# Altium schematic symbol library mag-encoder-uart.SchLib: 9 symbols
Pins are listed as number, name and electrical type; pins without a type are passive.

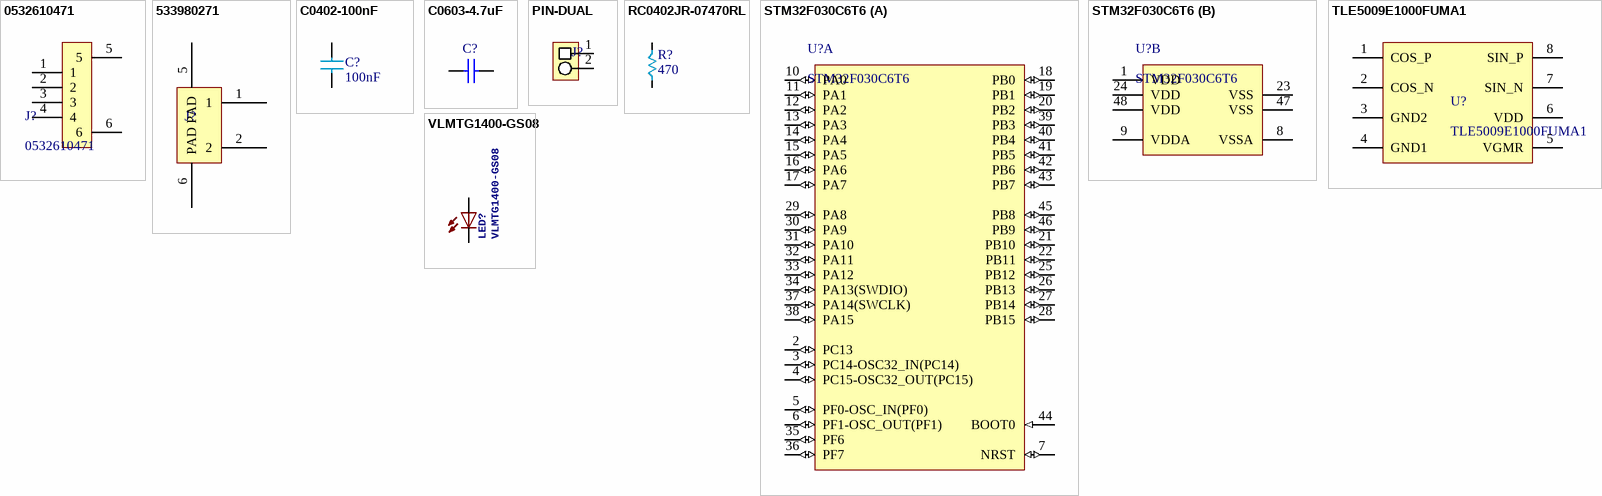
[diagram p0: symbols 0532610471 to VLMTG1400-GS08]

## 0532610471
designator J?
Headers & Wire Housings 1.25MM HDR 4 CKT Right-Angle; Manufacturer: Molex; Manufacturer Part Number: 53261-0471; Contact Resistance: 20mR; Number of Positions: 4; Current Rating: 1A; Voltage Rating (AC): 125V; Insulation Resistance: 100MR; Gender: Male; Glow Wire Compliant: Non-compliant; Supplier 1: Digi-Key; Supplier Part Number 1: WM7622DKR-ND; Description 1: Headers & Wire Housings 1.25MM HDR 4 CKT Right-Angle; Stock: 42057; Pricing: 1=1.24, 10=1.089, 100=0.9397, 500=0.76884 (USD); Mount: Surface Mount; Contact Plating: Tin; Contact Material: Bronze,Tin; Color: Beige; Housing Material: Thermoplastic; Min Operating Temperature: -40°C; Max Operating Temperature: 85°C; Orientation: Right Angle; Number of Rows: 1; Packaging: Tape and Reel; Termination: SMD/SMT; Number of Contacts: 4; Voltage Rating: 125V; Package Quantity: 1000; Working Voltage: 125V; Number of Circuits: 4; Voltage Rating (DC): 125V; Pitch: 1.25mm; Lead Pitch: 1.25mm; Radiation Hardening: No; Flammability Rating: UL94 V-0; REACH SVHC: Unknown; Lead Free: Lead Free; ComponentLink1URL: http://www.mouser.com/ds/2/276/0532610471_PCB_HEADERS-170942.pdf; ComponentLink1Description: http://www.mouser.com/ds/2/276/0532610471_PCB_HEADERS-170942.pdf; ComponentLink2URL: http://uk.rs-online.com/webdocs/1380/0900766b8138010d.pdf; ComponentLink2Description: http://uk.rs-online.com/webdocs/1380/0900766b8138010d.pdf; ComponentLink3URL: http://www.farnell.com/datasheets/1867384.pdf; ComponentLink3Description: http://www.farnell.com/datasheets/1867384.pdf; ComponentLink4URL: http://www.molex.com/webdocs/datasheets/pdf/en-us/0532610471_PCB_HEADERS.pdf; ComponentLink4Description: http://www.molex.com/webdocs/datasheets/pdf/en-us/0532610471_PCB_HEADERS.pdf; ComponentLink5URL: https://www.alliedelec.com/m/d/74d14d19c60ab078e4881c4c1bd42ef7.pdf; ComponentLink5Description: https://www.alliedelec.com/m/d/74d14d19c60ab078e4881c4c1bd42ef7.pdf; ComponentLink6URL: http://www.jameco.com/Jameco/Products/ProdDS/1932555.pdf; ComponentLink6Description: http://www.jameco.com/Jameco/Products/ProdDS/1932555.pdf
footprint 0532610471
pins: 1 (power), 2 (power), 3 (power), 4 (power), 5 (power), 6 (power)

## 533980271
designator J?  (value not drawn)
CONN HEADER SMD 2POS 1.25MM; Manufacturer: Molex; Manufacturer Part Number: 53398-0271; Number of Contacts: 2; Contact Resistance: 20mR; Gender: Male; Current Rating: 1A; Voltage Rating (AC): 125V; Insulation Resistance: 100MR; Glow Wire Compliant: Non-compliant; Supplier 1: Digi-Key; RoHS: Yes; Category: Headers and Wire Housings; Stock 1: 75503; Pricing 1: 1=0.59000, 10=0.54900, 100=0.42100, 500=0.36608 (USD); Mount: Surface Mount; Contact Plating: Tin; Contact Material: Bronze,Brass,Tin; Color: Natural; Housing Color: Natural; Housing Material: Nylon; Min Operating Temperature: -40°C; Max Operating Temperature: 85°C; Number of Rows: 1; Termination: Solder; Orientation: Vertical; Packaging: Tape and Reel; Package Quantity: 1000; Voltage Rating: 125V; Number of Positions: 2; Working Voltage: 125V; Number of Circuits: 2; Voltage Rating (DC): 125V; Pitch: 1.25mm; Radiation Hardening: No; REACH SVHC: Unknown; Lead Free: Lead Free; Flammability Rating: UL94 V-0; ComponentLink1URL: https://datasheet.ciiva.com/7167/1626130-7167520.pdf?src-supplier=Newark; ComponentLink1Description: https://datasheet.ciiva.com/7167/1626130-7167520.pdf?src-supplier=Newark; ComponentLink2URL: https://datasheet.ciiva.com/9468/0533980271-pcb-headers-9468512.pdf?src-supplier=Avnet; ComponentLink2Description: https://datasheet.ciiva.com/9468/0533980271-pcb-headers-9468512.pdf?src-supplier=Avnet; ComponentLink3URL: https://datasheet.ciiva.com/36178/1932619-36178944.pdf?src-supplier=Jameco; ComponentLink3Description: https://datasheet.ciiva.com/36178/1932619-36178944.pdf?src-supplier=Jameco; ComponentLink4URL: https://datasheet.ciiva.com/7920/1841150-7920834.pdf?src-supplier=Element14; ComponentLink4Description: https://datasheet.ciiva.com/7920/1841150-7920834.pdf?src-supplier=Element14; ComponentLink5URL: https://datasheet.ciiva.com/14156/gf116833-116846-e-14156243.pdf?src-supplier=Distrelec; ComponentLink5Description: https://datasheet.ciiva.com/14156/gf116833-116846-e-14156243.pdf?src-supplier=Distrelec; ComponentLink6URL: https://datasheet.ciiva.com/30229/225140533980271-pcb-headers-30229043.pdf?src-supplier=Onlinecomponents.com; ComponentLink6Description: https://datasheet.ciiva.com/30229/225140533980271-pcb-headers-30229043.pdf?src-supplier=Onlinecomponents.com; ComponentLink7URL: https://datasheet.ciiva.com/5150/0533980271-pcb-headers-146564-5150549.pdf?src-supplier=Mouser; ComponentLink7Description: https://datasheet.ciiva.com/5150/0533980271-pcb-headers-146564-5150549.pdf?src-supplier=Mouser; ComponentLink8URL: https://datasheet.ciiva.com/28523/1759360-28523372.pdf?src-supplier=Element14; ComponentLink8Description: https://datasheet.ciiva.com/28523/1759360-28523372.pdf?src-supplier=Element14; ComponentLink9URL: https://datasheet.ciiva.com/11746/0900766b80ab946a-11746463.pdf?src-supplier=RSComponents; ComponentLink9Description: https://datasheet.ciiva.com/11746/0900766b80ab946a-11746463.pdf?src-supplier=RSComponents; ComponentLink10URL: https://datasheet.ciiva.com/22707/1867379-22707654.pdf?src-supplier=Element14; ComponentLink10Description: https://datasheet.ciiva.com/22707/1867379-22707654.pdf?src-supplier=Element14; ComponentLink11URL: https://datasheet.ciiva.com/18454/70090670-18454279.pdf?src-supplier=Allied+Electronics; ComponentLink11Description: https://datasheet.ciiva.com/18454/70090670-18454279.pdf?src-supplier=Allied+Electronics; ComponentLink12URL: https://datasheet.ciiva.com/22683/1626130-22683563.pdf?src-supplier=Element14; ComponentLink12Description: https://datasheet.ciiva.com/22683/1626130-22683563.pdf?src-supplier=Element14; ComponentLink13URL: https://datasheet.ciiva.com/16658/0533980271-pcb-headers-16658429.pdf?src-supplier=Avnet+Europe; ComponentLink13Description: https://datasheet.ciiva.com/16658/0533980271-pcb-headers-16658429.pdf?src-supplier=Avnet+Europe; Supplier Part Number 1: WM7606CT-ND
footprint 533980271
pins: 1, 2, 5 PAD, 6 PAD

## C0402-100nF
designator C?, comment 100nF
SAMSUNG ELECTRO-MECHANICS - CL05F104ZO5NNNC - SMD Multilayer Ceramic Capacitor, 0.1 µF, 16 V, 0402 [1005 Metric], +80%, -20%, Y5V, CL Series; Tolerance: 80%; Voltage Rating: 16V; Supplier 1: Digi-Key; Manufacturer: Samsung; Manufacturer Part Number: CL05F104ZO5NNNC; RoHS: Yes; Category: Ceramic Capacitors; Stock 1: 4278518; Pricing 1: 1=0.10000, 10=0.01900, 50=0.01040, 100=0.00850, 500=0.00604, 1000=0.00475, 2500=0.00432, 5000=0.00397 (USD); Mount: Surface Mount; Case/Package: 0402; Material: Ceramic; Contact Plating: Tin; Case Code (Metric): 1005; Case Code (Imperial): 0402; Min Operating Temperature: -30°C; Max Operating Temperature: 85°C; Capacitance: 100nF; Dielectric: Y5V; Packaging: Tape and Reel; Length: 1mm; Height: 0.5mm; Width: 0.02inch; Thickness: 0.022inch; Depth: 0.5mm; Radiation Hardening: No; ComponentLink1URL: https://datasheet.ciiva.com/16199/cl05f104zo5nnnc-16199056.pdf?src-supplier=Future+Electronics; ComponentLink1Description: https://datasheet.ciiva.com/16199/cl05f104zo5nnnc-16199056.pdf?src-supplier=Future+Electronics; ComponentLink2URL: https://datasheet.ciiva.com/15195/getdatasheetpartid-358403-15195703.pdf?src-supplier=Verical; ComponentLink2Description: https://datasheet.ciiva.com/15195/getdatasheetpartid-358403-15195703.pdf?src-supplier=Verical; ComponentLink3URL: https://datasheet.ciiva.com/29198/458504-da-01-en-vs-kondensator-0402-29198386.pdf?src-supplier=Conrad; ComponentLink3Description: https://datasheet.ciiva.com/29198/458504-da-01-en-vs-kondensator-0402-29198386.pdf?src-supplier=Conrad; Supplier Part Number 1: 1276-1004-1-ND
footprint c0402 (Chip Capacitor, 2-Leads, Body 1.00x0.50mm, IPC Medium Density)
pins: 1, 2

## C0603-4.7uF
designator C?, comment 4.7uF  (value not drawn)
Cap Ceramic 4.7uF 6.3VDC X5R 10% SMD 0603 Paper T/R; Manufacturer: Samsung; Manufacturer Part Number: CL10A475KQ8NNNC; Tolerance: 20%; Voltage Rating: 6.3V; Supplier 1: Digi-Key; RoHS: Yes; Category: Ceramic Capacitors; Stock 1: 1192818; Pricing 1: 1=0.10000, 10=0.04500, 50=0.02480, 100=0.02030, 500=0.01448, 1000=0.01137 (USD); Mount: Surface Mount; Case/Package: 0603; Case Code (Metric): 1608; Case Code (Imperial): 0603; Material: Ceramic; Contact Plating: Tin; Min Operating Temperature: -55°C; Max Operating Temperature: 85°C; Capacitance: 4.7uF; Dielectric: X5R; Packaging: Tape and Reel; Package Quantity: 1; Voltage: 6.3V; Length: 1.6mm; Height: 0.8mm; Width: 0.031inch; Thickness: 0.035inch; Depth: 0.8mm; Radiation Hardening: No; ComponentLink1URL: https://datasheet.ciiva.com/15195/getdatasheetpartid-358620-15195714.pdf?src-supplier=Verical; ComponentLink1Description: https://datasheet.ciiva.com/15195/getdatasheetpartid-358620-15195714.pdf?src-supplier=Verical; ComponentLink2URL: https://datasheet.ciiva.com/29198/457675-da-01-en-vs-kondensator-0603-29198672.pdf?src-supplier=Conrad; ComponentLink2Description: https://datasheet.ciiva.com/29198/457675-da-01-en-vs-kondensator-0603-29198672.pdf?src-supplier=Conrad; ComponentLink3URL: https://datasheet.ciiva.com/16437/cl05b104kq5nnnc-16437321.pdf?src-supplier=Future+Electronics; ComponentLink3Description: https://datasheet.ciiva.com/16437/cl05b104kq5nnnc-16437321.pdf?src-supplier=Future+Electronics; Supplier Part Number 1: 1276-1045-1-ND
footprint C0603 (Chip Capacitor, 2-Leads, Body 1.60x0.80mm, IPC Medium Density)
pins: 1, 2

## PIN-DUAL
designator J?  (value not drawn)
footprint PAD-DOUBLE
pins: 1, 2

## RC0402JR-07470RL
designator R?, comment 470
RES 680 OHM 5% 1/16W 0402; Manufacturer: Yageo; Manufacturer Part Number: RC0402JR-07470RL; Description 1: RES SMD 470 OHM 5% 1/16W 0402; Resistance: 470R; Power Rating: 62.5mW; Voltage Rating: 50V; Temperature Coefficient: 100ppm/°C; Max Power Dissipation: 63mW; Value: 470; Supplier 1: Digi-Key; Supplier Part Number 1: 311-470JRDKR-ND; Stock: 2903670; Pricing: 1=0.1, 10=0.013, 100=0.0055, 1000=0.00245, 2500=0.00212, 5000=0.00176 (USD); Case/Package: 0402; Case Code (Metric): 1005; Case Code (Imperial): 0402; Min Operating Temperature: -55°C; Max Operating Temperature: 155°C; Composition: Thick Film; Tolerance: 5%; Packaging: Tape and Reel; Package Quantity: 1; Number of Terminations: 2; Termination: SMD/SMT; Military Standard: Not; Working Voltage: 50V; Features: Moisture Resistant; Length: 1mm; Height: 0.016inch; Width: 0.02inch; Depth: 0.5mm; REACH SVHC: Unknown; Lead Free: Lead Free; ComponentLink1URL: http://www.yageo.com/documents/recent/PYu-RC_Group_51_RoHS_L_10.pdf?src-supplier=Digi-Key; ComponentLink1Description: http://www.yageo.com/documents/recent/PYu-RC_Group_51_RoHS_L_10.pdf?src-supplier=Digi-Key; ComponentLink2URL: http://www.farnell.com/datasheets/1018594.pdf?src-supplier=Element14; ComponentLink2Description: http://www.farnell.com/datasheets/1018594.pdf?src-supplier=Element14; ComponentLink3URL: http://www.mouser.com/ds/2/447/PYu-RC0402_51_RoHS_L_6_r-8721.pdf?src-supplier=Mouser; ComponentLink3Description: http://www.mouser.com/ds/2/447/PYu-RC0402_51_RoHS_L_6_r-8721.pdf?src-supplier=Mouser; Supplier 2: Digi-Key; RoHS: Yes; Category: Chip SMD Resistors; Stock 2: 241664; Pricing 2: 1=0.10000, 10=0.01100, 100=0.00450, 1000=0.00204, 2500=0.00177, 5000=0.00146 (USD); Mount: Surface Mount; Contact Plating: Tin,Matte; Radiation Hardening: No; ComponentLink4URL: https://www.seielect.com/catalog/SEI-Packaging.pdf?src-supplier=Digi-Key; ComponentLink4Description: https://www.seielect.com/catalog/SEI-Packaging.pdf?src-supplier=Digi-Key; ComponentLink5URL: https://www.seielect.com/catalog/SEI-RMCF_RMCP.pdf?src-supplier=Avnet; ComponentLink5Description: https://www.seielect.com/catalog/SEI-RMCF_RMCP.pdf?src-supplier=Avnet; ComponentLink6URL: http://www.seielect.com/Catalog/SEI-RMC.pdf?src-supplier=Future+Electronics; ComponentLink6Description: http://www.seielect.com/Catalog/SEI-RMC.pdf?src-supplier=Future+Electronics; Supplier Part Number 2: RMCF0402JT680RCT-ND
footprint R0402 (Chip Resistor, 2-Leads, Body 1.00x0.50mm, IPC High Density)
pins: 1, 2

## STM32F030C6T6
designator U?
STMICROELECTRONICS - STM32F030C6T6 - ARM MCU, Value Line, STM32 Family STM32F0 Series Microcontrollers, ARM Cortex-M0, 32bit, 48 MHz - ARM MCU, Value Line, STM32 Family STM32F0 Series Microcontrollers, ARM Cortex-M0, 32bit, 48 MHz; FLASH Size (Prog) (kB): 32; I/Os (High Current): 39; Internal RAM Size (kB): 4; Operating Frequency(F) (Processor speed) (MHz): 48; Packing: Tray; Supply Voltage(Vcc) min (V): 2.4; Interface: I2C,SPI,UART,USART; Number of Timers/Counters: 5; Max Supply Voltage: 3.6V; RAM Size: 4KB; Max Power Dissipation: 364mW; Frequency: 48MHz; Min Supply Voltage: 2.4V; Number of ADC Channels: 16; Oscillator Type: Internal; Data Bus Width: 32b; Watchdog Timer: Yes; Memory Type: FLASH; Memory Size: 32KB; Peripherals: POR,PWM,WDT,DMA; Number of SPI Channels: 1; Number of PWM Channels: 6; DatasheetVersion: Rev. 1; PackageVersion: Rev. 6, 06/2013; PackageReference: LQFP48; PackageDescription: 48-Pin Low Profile Quad Flat Package, 7 x 7 mm Body, 0.5 mm Pitch; Supplier 1: Digi-Key; Supplier Part Number 1: 497-14042-ND; Supplier 2: Newark; Supplier Part Number 2: 06X3646; Supplier 3: Mouser; Supplier Part Number 3: 511-STM32F030C6T6; Core: ARM Cortex-M0; Mounting Technology: Surface Mount; PartNumber: STM32F030C6T6; ComponentLink1Description: Manufacturer URL; ComponentLink1URL: http://www.st.com/web/en/home.html; ComponentLink2Description: Datasheet; ComponentLink2URL: http://www.st.com/st-web-ui/static/active/en/resource/technical/document/datasheet/DM00088500.pdf; ComponentLink3Description: Package Specification; ComponentLink3URL: http://www.st.com/st-web-ui/static/active/en/resource/technical/document/datasheet/DM00058181.pdf; Manufacturer: STMicroelectronics; Manufacturer Part Number: STM32F030C6T6; RoHS: Yes; Category: Microcontrollers; Stock 1: 262; Pricing 1: 1=1.48000, 10=1.32900, 25=1.25400, 100=1.06840, 250=1.00320, 500=0.87780, 1000=0.72732, 2500=0.67716, 5000=0.65208 (USD); Case/Package: LQFP; Number of Pins: 48; Contact Plating: Tin,Matte; Min Operating Temperature: -40°C; Max Operating Temperature: 85°C; Number of I/Os: 39; Package Quantity: 250; Packaging: Tray; Number of Programmable I/O: 39; Max Frequency: 48MHz; Core Architecture: ARM; Number of I2C Channels: 1; Length: 7.2mm; Height: 1.45mm; Width: 7.2mm; Radiation Hardening: No; Lead Free: Lead Free; REACH SVHC: No SVHC; ComponentLink4URL: https://datasheet.ciiva.com/29720/dm00088500-29720640.pdf?src-supplier=Avnet; ComponentLink4Description: https://datasheet.ciiva.com/29720/dm00088500-29720640.pdf?src-supplier=Avnet; ComponentLink5URL: https://datasheet.ciiva.com/28647/1883133-28647788.pdf?src-supplier=Element14; ComponentLink5Description: https://datasheet.ciiva.com/28647/1883133-28647788.pdf?src-supplier=Element14
footprint LQFP48 (QFP, 48-Leads, Body 7x7mm, Pitch 0.5mm, IPC Medium Density)
part A pins: 2 PC13 (io) "PC13/RTC_TAMP1,RTC_TS,RTC_OUT,WKUP2", 3 PC14-OSC32_IN(PC14) (io) "PC14-OSC32_IN(PC14)/OSC32_IN", 4 PC15-OSC32_OUT(PC15) (io) "PC15-OSC32_OUT(PC15)/OSC32_OUT", 5 PF0-OSC_IN(PF0) (io) "PF0-OSC_IN(PF0)/OSC_IN", 6 PF1-OSC_OUT(PF1) (io) "PF1-OSC_OUT(PF1)/OSC_OUT", 7 NRST (io) "Device reset input / internal reset output (active low)", 10 PA0 (io) "PA0/USART1_CTS/ADC_IN0,RTC_TAMP2,WKUP1", 11 PA1 (io) "PA1/USART1_RTS,EVENTOUT/ADC_IN1", 12 PA2 (io) "PA2/USART1_TX/ADC_IN2", 13 PA3 (io) "PA3/USART1_RX/ADC_IN3", 14 PA4 (io) "PA4/SPI1_NSS,USART1_CK,TIM14_CH1/ADC_IN4", 15 PA5 (io) "PA5/SPI1_SCK/ADC_IN5", 16 PA6 (io) "PA6/SPI1_MISO,TIM3_CH1,TIM1_BKIN,TIM16_CH1,EVENTOUT/ADC_IN6", 17 PA7 (io) "PA7/SPI1_MOSI,TIM3_CH2,TIM14_CH1,TIM1_CH1N,TIM17_CH1,EVENTOUT/ADC_IN7", 18 PB0 (io) "PB0/TIM3_CH3,TIM1_CH2N,EVENTOUT/ADC_IN8", 19 PB1 (io) "PB1/TIM3_CH4,TIM14_CH1,TIM1_CH3N/ADC_IN9", 20 PB2 (io), 21 PB10 (io) "PB10/I2C1_SCL", 22 PB11 (io) "PB11/I2C1_SDA,EVENTOUT", 25 PB12 (io) "PB12/SPI1_NSS,TIM1_BKIN,EVENTOUT", 26 PB13 (io) "PB13/SPI1_SCK,TIM1_CH1N", 27 PB14 (io) "PB14/SPI1_MISO,TIM1_CH2N", 28 PB15 (io) "PB15/SPI1_MOSI,TIM1_CH3N/RTC_REFIN", 29 PA8 (io) "PA8/USART1_CK,TIM1_CH1,EVENTOUT,MCO", 30 PA9 (io) "PA9/USART1_TX,TIM1_CH2,I2C1_SCL", 31 PA10 (io) "PA10/USART1_RX,TIM1_CH3,TIM17_BKIN,I2C1_SDA", 32 PA11 (io) "PA11/USART1_CTS,TIM1_CH4,EVENTOUT", 33 PA12 (io) "PA12/USART1_RTS,TIM1_ETR,EVENTOUT", 34 PA13(SWDIO) (io) "PA13(SWDIO)/IR_OUT,SWDIO", 35 PF6 (io) "PF6/I2C1_SCL", 36 PF7 (io) "PF7/I2C1_SDA", 37 PA14(SWCLK) (io) "PA14(SWCLK)/USART1_TX,SWCLK", 38 PA15 (io) "PA15/SPI1_NSS,USART1_RX,EVENTOUT", 39 PB3 (io) "PB3/SPI1_SCK,EVENTOUT", 40 PB4 (io) "PB4/SPI1_MISO,TIM3_CH1,EVENTOUT", 41 PB5 (io) "PB5/SPI1_MOSI,I2C1_SMBA,TIM16_BKIN,TIM3_CH2", 42 PB6 (io) "PB6/I2C1_SCL,USART1_TX,TIM16_CH1N", 43 PB7 (io) "PB7/I2C1_SDA,USART1_RX,TIM17_CH1N", 44 BOOT0 (in) "Boot memory selection", 45 PB8 (io) "PB8/I2C1_SCL,TIM16_CH1", 46 PB9 (io) "PB9/I2C1_SDA,IR_OUT,TIM17_CH1,EVENTOUT"
part B pins: 1 VDD (power) "Complementary power supply", 8 VSSA (power) "Analog ground", 9 VDDA (power) "Analog power supply", 23 VSS (power) "Ground", 24 VDD (power) "Digital power supply", 47 VSS (power) "Ground", 48 VDD (power) "Digital power supply"

## TLE5009E1000FUMA1
designator U?
RotaryPosition Sensor 5.5V Automotive 8-Pin DSO Tape and Reel; Manufacturer: Infineon; Operating Supply Voltage: 3.3V; Interface: Analog; Sensing Method: Magnetoresistive; Supplier 1: Digi-Key; Manufacturer Part Number: TLE5009E1000FUMA1; RoHS: Yes; Category: Sensors; Stock 1: 2450; Pricing 1: 1=3.40000, 5=3.15600, 10=2.62200, 25=2.18480, 50=1.94220, 100=1.84510, 500=1.55372, 1000=1.45662 (USD); Mount: Surface Mount; Case/Package: SMD/SMT; Number of Pins: 8; Min Operating Temperature: -40°C; Max Operating Temperature: 150°C; Termination: SMD/SMT; Lead Free: Lead Free; Halogen Free: Not Halogen Free; ComponentLink1URL: http://components.arrow.com/part/dataview/52121057S8968538N2051?src-supplier=Arrow; ComponentLink1Description: http://components.arrow.com/part/dataview/52121057S8968538N2051?src-supplier=Arrow; ComponentLink2URL: http://components.arrow.com/part/dataview/0323_03444430?src-supplier=Arrow+Europe; ComponentLink2Description: http://components.arrow.com/part/dataview/0323_03444430?src-supplier=Arrow+Europe; ComponentLink3URL: http://www.infineon.com/dgdl/Infineon-TLE5009_FDS-DS-v01_01-en.pdf?fileId=db3a304330f686060131421d8ddd56b0&src-supplier=Digi-Key; ComponentLink3Description: http://www.infineon.com/dgdl/Infineon-TLE5009_FDS-DS-v01_01-en.pdf?fileId=db3a304330f686060131421d8ddd56b0&src-supplier=Digi-Key; ComponentLink4URL: http://www.infineon.com/dgdl/TLE5009_PDS_Rev0.9.pdf?folderId=db3a30431ce5fb52011d3dd6e8012582&fileId=db3a304330f686060131421d8ddd56b0&src-supplier=Avnet; ComponentLink4Description: http://www.infineon.com/dgdl/TLE5009_PDS_Rev0.9.pdf?folderId=db3a30431ce5fb52011d3dd6e8012582&fileId=db3a304330f686060131421d8ddd56b0&src-supplier=Avnet; Supplier Part Number 1: TLE5009E1000FUMA1CT-ND
footprint SOIC127P600X175-8L (SOIC, 8-Leads, Body 5.00x4.00mm, Pitch 1.27mm, IPC High Density)
pins: 1 COS_P, 2 COS_N, 3 GND2, 4 GND1, 5 VGMR, 6 VDD, 7 SIN_N, 8 SIN_P

## VLMTG1400-GS08
designator LED?
LED GREEN 0603 SMD; Manufacturer: Vishay; Lens Style: Flat; Luminous Intensity: 1400mcd; Forward Voltage: 2.85V; Test Current: 20mA; Viewing Angle: 146°; Dominant Wavelength: 525nm; Lens Size: 0.8mm; Supplier 1: Digi-Key; Manufacturer Part Number: VLMTG1400-GS08; RoHS: No; Category: LEDs; Stock 1: 1146; Pricing 1: 1=0.48000, 10=0.34300, 100=0.22400, 500=0.16100, 1000=0.12600 (USD); Mount: Surface Mount; Case/Package: 0603; Color: Green; Case Code (Imperial): 0603; Case Code (Metric): 1608; Packaging: Cut Tape; Length: 1.6mm; Height: 0.65mm; Width: 0.8mm; ComponentLink1URL: http://www.farnell.com/datasheets/2614507.pdf?src-supplier=Farnell; ComponentLink1Description: http://www.farnell.com/datasheets/2614507.pdf?src-supplier=Farnell; ComponentLink2URL: http://www.vishay.com/docs/84393/vlmtg1400.pdf?src-supplier=Digi-Key; ComponentLink2Description: http://www.vishay.com/docs/84393/vlmtg1400.pdf?src-supplier=Digi-Key; Supplier Part Number 1: VLMTG1400-GS08CT-ND
footprint LED_0603
pins: A, C